# Altium schematic symbol library mylib.SchLib: 5 symbols
Pins are listed as number, name and electrical type; pins without a type are passive.

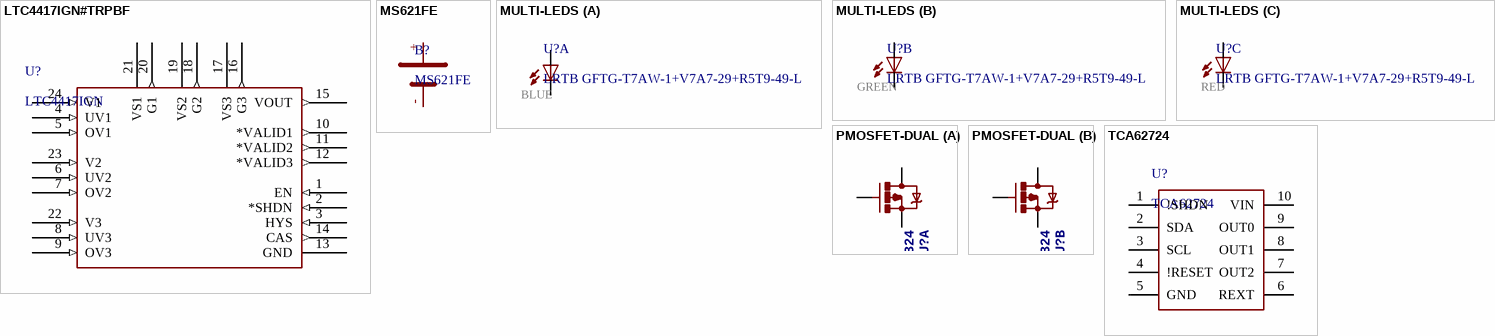
[diagram p0: symbols LTC4417IGN#TRPBF to TCA62724]

## LTC4417IGN#TRPBF
designator U?, comment LTC4417IGN
Selects Highest Priority Supply from Three Inputs; Manufacturer_Part_Number: ltc4417ign#trpbf; Vendor: Linear Technology; Value: Value; Type: Type; RefDes: RefDes
footprint SSOP-24_GN
pins: 1 EN (in), 2 *SHDN (in), 3 HYS (in), 4 UV1 (in), 5 OV1 (in), 6 UV2 (in), 7 OV2 (in), 8 UV3 (in), 9 OV3 (in), 10 *VALID1 (out), 11 *VALID2 (out), 12 *VALID3 (out), 13 GND (power), 14 CAS (out), 15 VOUT (out), 16 G3 (out), 17 VS3, 18 G2 (out), 19 VS2, 20 G1 (out), 21 VS1, 22 V3 (in), 23 V2 (in), 24 V1 (in)

## MS621FE
designator B?
MS Lithium Rechargeable Battery
footprint MS621FE
pins: +, -

## MULTI-LEDS
designator U?, comment LRTB GFTG-T7AW-1+V7A7-29+R5T9-49-L
Muti LEDs
footprint P-LCC-6
part A pins: A1 A, C1 C
part B pins: A2 A, C2 C
part C pins: A3 A, C3 C
part A text: BLUE
part B text: GREEN
part C text: RED

## PMOSFET-DUAL
designator U?, comment IRF7324
MOSFET 2P-CH 20V 2.9A CHIPFET; 3DR_PARTNO: EMC0901; Supplier 1: Digi-Key; Supplier 2: Mouser; Value: 20V 2.9A
footprint SO08
part A pins: 1 S, 2 G, 7 D
part B pins: 3 S, 4 G, 5 D

## TCA62724
designator U?
3-Channel Constant-Current LED Driver
footprint SON10
pins: 1 !SHDN, 2 SDA, 3 SCL, 4 !RESET, 5 GND, 6 REXT, 7 OUT2, 8 OUT1, 9 OUT0, 10 VIN